# EAGLE library part BOARD-CPLD-MAX!!-CQ (library mylib)
CPLD BOARD : MAX II (CQ Version)
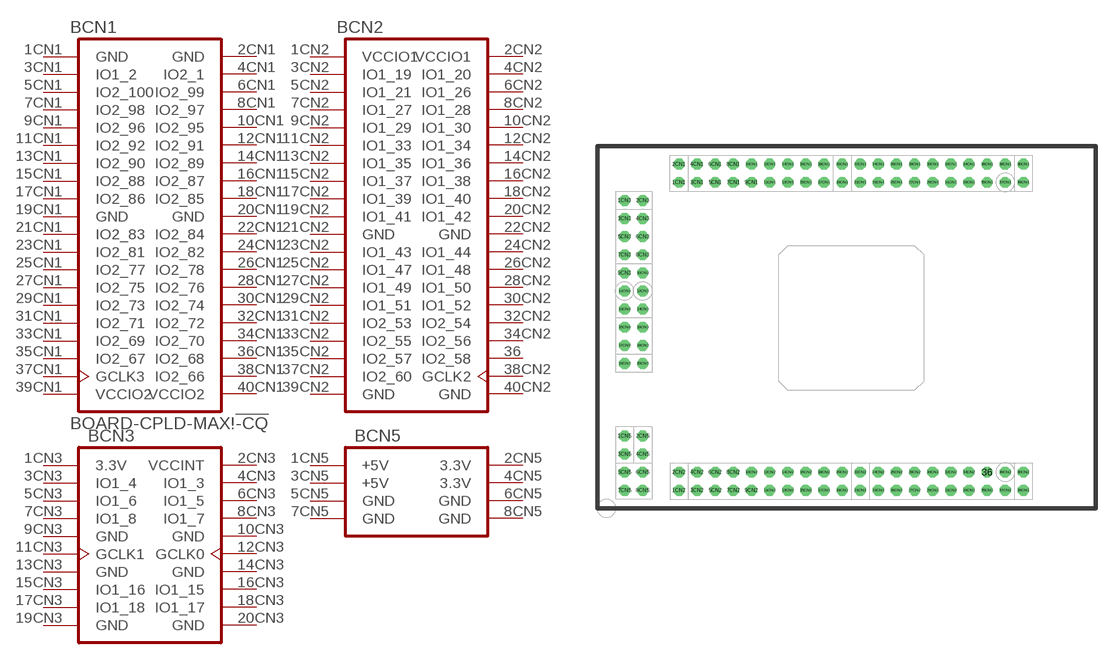
[diagram p67: symbol with the pads of BOARD-CPLD-MAX!!-CQ; footprint BOARD-CPLD-MAX!!-CQ]

Designator prefix B; gates CN1=BOARD-CPLD-MAX!!-CQ-CN1 CN2=BOARD-CPLD-MAX!!-CQ-CN2 CN3=BOARD-CPLD-MAX!!-CQ-CN3 CN5=BOARD-CPLD-MAX!!-CQ-CN5

## BOARD-CPLD-MAX!!-CQ  [BOARD-CPLD-MAX!!-CQ]
1CN1  CN1:GND  pwr
1CN2  CN2:VCCIO1  pwr
1CN3  CN3:3.3V  pwr
1CN5  CN5:+5V  pwr
2CN1  CN1:GND  pwr
2CN2  CN2:VCCIO1  pwr
2CN3  CN3:VCCINT  pwr
2CN5  CN5:3.3V  pwr
3CN1  CN1:IO1_2
3CN2  CN2:IO1_19
3CN3  CN3:IO1_4
3CN5  CN5:+5V  pwr
4CN1  CN1:IO2_1
4CN2  CN2:IO1_20
4CN3  CN3:IO1_3
4CN5  CN5:3.3V  pwr
5CN1  CN1:IO2_100
5CN2  CN2:IO1_21
5CN3  CN3:IO1_6
5CN5  CN5:GND  pwr
6CN1  CN1:IO2_99
6CN2  CN2:IO1_26
6CN3  CN3:IO1_5
6CN5  CN5:GND  pwr
7CN1  CN1:IO2_98
7CN2  CN2:IO1_27
7CN3  CN3:IO1_8
7CN5  CN5:GND  pwr
8CN1  CN1:IO2_97
8CN2  CN2:IO1_28
8CN3  CN3:IO1_7
8CN5  CN5:GND  pwr
9CN1  CN1:IO2_96
9CN2  CN2:IO1_29
9CN3  CN3:GND  pwr
10CN1  CN1:IO2_95
10CN2  CN2:IO1_30
10CN3  CN3:GND  pwr
11CN1  CN1:IO2_92
11CN2  CN2:IO1_33
11CN3  CN3:GCLK1  in
12CN1  CN1:IO2_91
12CN2  CN2:IO1_34
12CN3  CN3:GCLK0  in
13CN1  CN1:IO2_90
13CN2  CN2:IO1_35
13CN3  CN3:GND  pwr
14CN1  CN1:IO2_89
14CN2  CN2:IO1_36
14CN3  CN3:GND  pwr
15CN1  CN1:IO2_88
15CN2  CN2:IO1_37
15CN3  CN3:IO1_16
16CN1  CN1:IO2_87
16CN2  CN2:IO1_38
16CN3  CN3:IO1_15
17CN1  CN1:IO2_86
17CN2  CN2:IO1_39
17CN3  CN3:IO1_18
18CN1  CN1:IO2_85
18CN2  CN2:IO1_40
18CN3  CN3:IO1_17
19CN1  CN1:GND  pwr
19CN2  CN2:IO1_41
19CN3  CN3:GND  pwr
20CN1  CN1:GND  pwr
20CN2  CN2:IO1_42
20CN3  CN3:GND  pwr
21CN1  CN1:IO2_83
21CN2  CN2:GND  pwr
22CN1  CN1:IO2_84
22CN2  CN2:GND  pwr
23CN1  CN1:IO2_81
23CN2  CN2:IO1_43
24CN1  CN1:IO2_82
24CN2  CN2:IO1_44
25CN1  CN1:IO2_77
25CN2  CN2:IO1_47
26CN1  CN1:IO2_78
26CN2  CN2:IO1_48
27CN1  CN1:IO2_75
27CN2  CN2:IO1_49
28CN1  CN1:IO2_76
28CN2  CN2:IO1_50
29CN1  CN1:IO2_73
29CN2  CN2:IO1_51
30CN1  CN1:IO2_74
30CN2  CN2:IO1_52
31CN1  CN1:IO2_71
31CN2  CN2:IO2_53
32CN1  CN1:IO2_72
32CN2  CN2:IO2_54
33CN1  CN1:IO2_69
33CN2  CN2:IO2_55
34CN1  CN1:IO2_70
34CN2  CN2:IO2_56
35CN1  CN1:IO2_67
35CN2  CN2:IO2_57
36  CN2:IO2_58
36CN1  CN1:IO2_68
37CN1  CN1:GCLK3  in
37CN2  CN2:IO2_60
38CN1  CN1:IO2_66
38CN2  CN2:GCLK2  in
39CN1  CN1:VCCIO2  pwr
39CN2  CN2:GND  pwr
40CN1  CN1:VCCIO2  pwr
40CN2  CN2:GND  pwr

## Footprint BOARD-CPLD-MAX!!-CQ (pad centres in mm)
CPLD BOARD MAX II (CQ Version)
drill 1.016 octagon: 1CN1 10.16,45.72; 1CN2 10.16,2.54; 1CN3 2.54,43.18; 1CN5 2.54,10.16; 2CN1 10.16,48.26; 2CN2 10.16,5.08; 2CN3 5.08,43.18; 2CN5 5.08,10.16; 3CN1 12.7,45.72; 3CN2 12.7,2.54; 3CN3 2.54,40.64; 3CN5 2.54,7.62; 4CN1 12.7,48.26; 4CN2 12.7,5.08; 4CN3 5.08,40.64; 4CN5 5.08,7.62; 5CN1 15.24,45.72; 5CN2 15.24,2.54; 5CN3 2.54,38.1; 5CN5 2.54,5.08; 6CN1 15.24,48.26; 6CN2 15.24,5.08; 6CN3 5.08,38.1; 6CN5 5.08,5.08; 7CN1 17.78,45.72; 7CN2 17.78,2.54; 7CN3 2.54,35.56; 7CN5 2.54,2.54; 8CN1 17.78,48.26; 8CN2 17.78,5.08; 8CN3 5.08,35.56; 8CN5 5.08,2.54; 9CN1 20.32,45.72; 9CN2 20.32,2.54; 9CN3 2.54,33.02; 10CN1 20.32,48.26; 10CN2 20.32,5.08; 10CN3 5.08,33.02; 11CN1 22.86,45.72; 11CN2 22.86,2.54; 11CN3 2.54,30.48; 12CN1 22.86,48.26; 12CN2 22.86,5.08; 12CN3 5.08,30.48; 13CN1 25.4,45.72; 13CN2 25.4,2.54; 13CN3 2.54,27.94; 14CN1 25.4,48.26; 14CN2 25.4,5.08; 14CN3 5.08,27.94; 15CN1 27.94,45.72; 15CN2 27.94,2.54; 15CN3 2.54,25.4; 16CN1 27.94,48.26; 16CN2 27.94,5.08; 16CN3 5.08,25.4; 17CN1 30.48,45.72; 17CN2 30.48,2.54; 17CN3 2.54,22.86; 18CN1 30.48,48.26; 18CN2 30.48,5.08; 18CN3 5.08,22.86; 19CN1 33.02,45.72; 19CN2 33.02,2.54; 19CN3 2.54,20.32; 20CN1 33.02,48.26; 20CN2 33.02,5.08; 20CN3 5.08,20.32; 21CN1 35.56,45.72; 21CN2 35.56,2.54; 22CN1 35.56,48.26; 22CN2 35.56,5.08; 23CN1 38.1,45.72; 23CN2 38.1,2.54; 24CN1 38.1,48.26; 24CN2 38.1,5.08; 25CN1 40.64,45.72; 25CN2 40.64,5.08; 26CN1 40.64,48.26; 26CN2 40.64,2.54; 27CN1 43.18,45.72; 27CN2 43.18,2.54; 28CN1 43.18,48.26; 28CN2 43.18,5.08; 29CN1 45.72,45.72; 29CN2 45.72,2.54; 30CN1 45.72,48.26; 30CN2 45.72,5.08; 31CN1 48.26,45.72; 31CN2 48.26,2.54; 32CN1 48.26,48.26; 32CN2 48.26,5.08; 33CN1 50.8,45.72; 33CN2 50.8,2.54; 34CN1 50.8,48.26; 34CN2 50.8,5.08; 35CN1 53.34,45.72; 35CN2 53.34,2.54; 36 53.34,5.08; 36CN1 53.34,48.26; 37CN1 55.88,45.72; 37CN2 55.88,2.54; 38CN1 55.88,48.26; 38CN2 55.88,5.08; 39CN1 58.42,45.72; 39CN2 58.42,2.54; 40CN1 58.42,48.26; 40CN2 58.42,5.08